# Altium integrated library Digital_IC.IntLib: 7 symbols
Pins are listed as number, name and electrical type; pins without a type are passive.

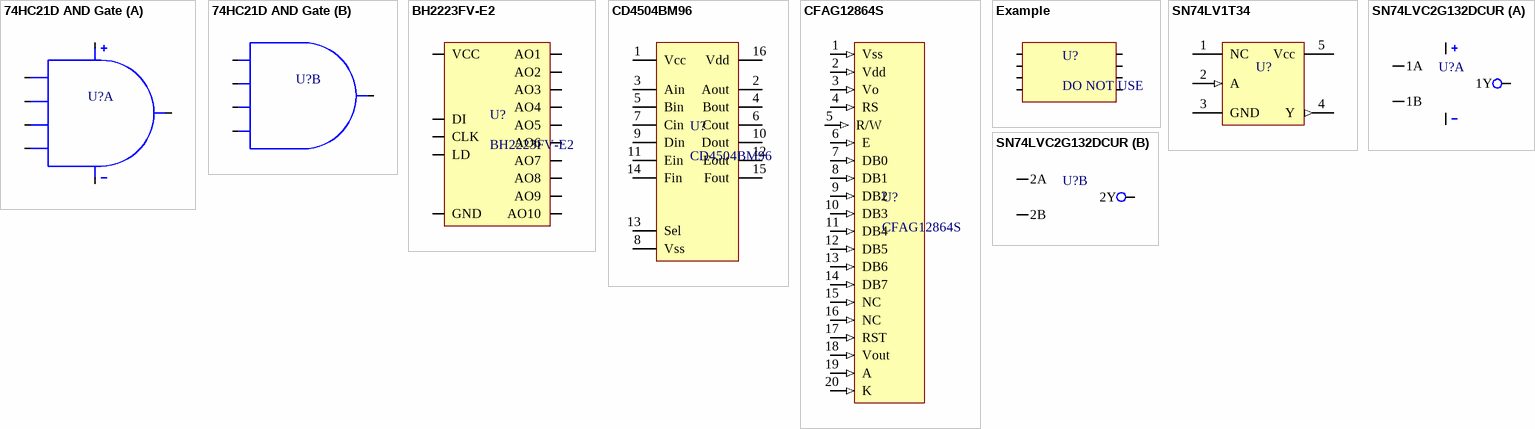
[diagram p0: symbols 74HC21D AND Gate to SN74LVC2G132DCUR]

## 74HC21D AND Gate
designator U?
AND Gate IC 2 Channel  14-SO; ComponentLink1Description: Digikey; ComponentLink1URL: https://www.digikey.com/en/products/detail/nexperia-usa-inc/74HC21D653/1230200
footprint SOIC-14 (SOIC, 14-Leads, Body 8.65x3.90mm, Pitch 1.27mm, IPC Medium Density)
part A pins: 1 1A, 2 1B, 4 1C, 5 1D, 6 1Y, 7 GND, 14 Vcc
part B pins: 8 2Y, 9 2A, 10 2B, 12 2C, 13 2D

## BH2223FV-E2
designator U?
8 Bit Digital to Analog Converter 10 16-SSOP-B; Num_Circuits: 10; Voltage: 5; ComponentLink1Description: Digikey; ComponentLink1URL: https://www.digikey.com/en/products/detail/rohm-semiconductor/BH2223FV-E2/658519; ComponentLink2Description: Datasheet; ComponentLink2URL: http://rohmfs.rohm.com/en/products/databook/datasheet/ic/data_converter/dac/bh2223fv-e.pdf
footprint SSOP-16 (SSOP, 16-Leads, Body 5.00x4.40mm, Pitch 0.65mm, IPC Medium Density)
pins: 1 AO2, 2 AO3, 3 AO4, 4 AO5, 5 AO6, 6 AO7, 7 AO8, 8 AO9, 9 VCC, 10 AO10, 12 LD, 13 CLK, 14 DI, 15 AO1, 16 GND

## CD4504BM96
designator U?
Voltage Level Translator Unidirectional 1 Cir; Num_Circuits: 1; Voltage: 15; ComponentLink1Description: Digikey; ComponentLink1URL: https://www.digikey.com/product-detail/en/texas-instruments/CD4504BM96/296-14150-2-ND/525968
footprint SOIC-16 (SOIC, 16-Leads, Body 9.90x3.90mm, Pitch 1.27mm, IPC Medium Density)
pins: 1 Vcc, 2 Aout, 3 Ain, 4 Bout, 5 Bin, 6 Cout, 7 Cin, 8 Vss, 9 Din, 10 Dout, 11 Ein, 12 Eout, 13 Sel, 14 Fin, 15 Fout, 16 Vdd

## CFAG12864S
designator U?
Sunlight Readable 128x64 SPI or Parallel Graphic LCD; Voltage: 5; ComponentLink1Description: Datasheet; ComponentLink1URL: https://www.crystalfontz.com/product/cfag12864syyhvt-lcd-graphical-128x64
footprint CFAG12864S
pins: 1 Vss (in), 2 Vdd (in), 3 Vo (in), 4 RS (in), 5 R/W (in), 6 E (in), 7 DB0 (in), 8 DB1 (in), 9 DB2 (in), 10 DB3 (in), 11 DB4 (in), 12 DB5 (in), 13 DB6 (in), 14 DB7 (in), 15 NC (in), 16 NC (in), 17 RST (in), 18 Vout (in), 19 A (in), 20 K (in)

## Example
designator U?, comment DO NOT USE
Num_Circuits: *; Voltage: *
footprint SOIC-8 (SOIC, 8-Leads, Body 4.90x3.90mm, Pitch 1.27mm, IPC Medium Density)
pins: 1, 2, 3, 4, 5, 6, 7, 8

## SN74LV1T34
designator U?
Logic Level Shifter; ComponentLink1Description: Digikey; ComponentLink1URL: https://www.digikey.com/en/products/detail/texas-instruments/SN74LV1T34DCKR/4555576
footprint SOT-23-5 (SOT23, 5-Leads, Body 3.05x1.75mm, Pitch 0.95mm, IPC Low Density)
pins: 1 NC, 2 A (in), 3 GND (power), 4 Y (out), 5 Vcc (power)

## SN74LVC2G132DCUR
designator U?
Num_Circuits: 2; Voltage: 5; ComponentLink1Description: Digikey; ComponentLink1URL: https://www.digikey.com/product-detail/en/texas-instruments/SN74LVC2G132DCUR/296-18802-1-ND/863928
footprint VSSOP-8 (Very thin shrink small outline package; 8 leads; 0.5 mm pitch)
part A pins: 1 1A, 2 1B, 4 GND, 7 1Y, 8 Vcc
part B pins: 3 2Y, 5 2A, 6 2B